# Altium footprint library SMD68_SPE_SIM900.PcbLib: 1 footprints
Each footprint in its own frame and in the unit in brackets; x right, y up, seen from the top. Pads: shape width x height; smd on the part's side, far side on the other; paste and mask are expansions set on the pad; w line width, h text height; cw(c..) or ccw(c..) is an arc to the next point about the centre after c.
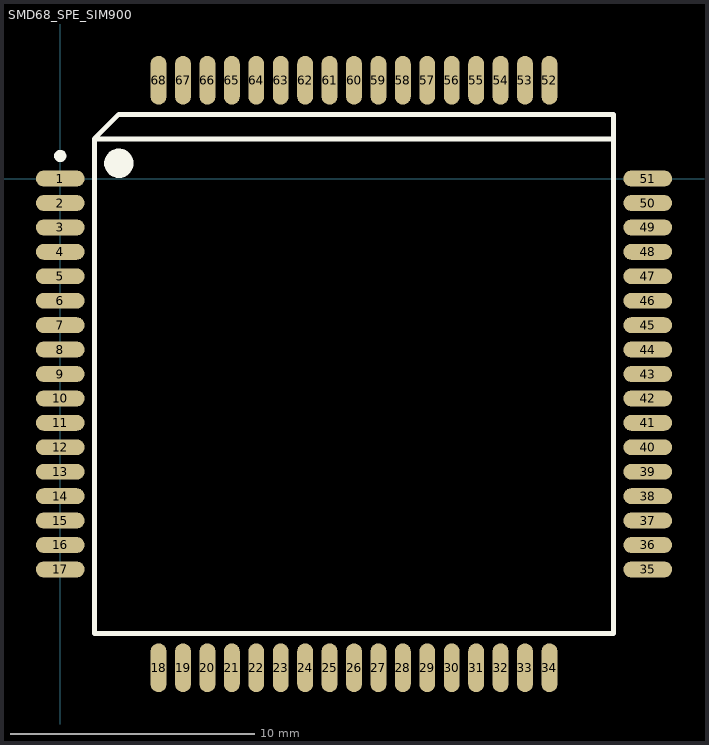
[diagram p0: the footprint, top view; thin cyan lines are the x and y axes]

## SMD68_SPE_SIM900 [mm]
height 3
pads (68):
  oval 2x0.65 smd: 1(0,0) 2(0,-1) 3(0,-2) 4(0,-3) 5(0,-4) 6(0,-5) 7(0,-6) 8(0,-7) 9(0,-8) 10(0,-9) 11(0,-10) 12(0,-11) 13(0,-12) 14(0,-13) 15(0,-14) 16(0,-15) 17(0,-16) 35(24.05,-16) 36(24.05,-15) 37(24.05,-14) 38(24.05,-13) 39(24.05,-12) 40(24.05,-11) 41(24.05,-10) 42(24.05,-9) 43(24.05,-8) 44(24.05,-7) 45(24.05,-6) 46(24.05,-5) 47(24.05,-4) 48(24.05,-3) 49(24.05,-2) 50(24.05,-1) 51(24.05,0)
  oval 0.65x2 smd: 18(4.025,-20.025) 19(5.025,-20.025) 20(6.025,-20.025) 21(7.025,-20.025) 22(8.025,-20.025) 23(9.025,-20.025) 24(10.025,-20.025) 25(11.025,-20.025) 26(12.025,-20.025) 27(13.025,-20.025) 28(14.025,-20.025) 29(15.025,-20.025) 30(16.025,-20.025) 31(17.025,-20.025) 32(18.025,-20.025) 33(19.025,-20.025) 34(20.025,-20.025) 52(20.025,4.025) 53(19.025,4.025) 54(18.025,4.025) 55(17.025,4.025) 56(16.025,4.025) 57(15.025,4.025) 58(14.025,4.025) 59(13.025,4.025) 60(12.025,4.025) 61(11.025,4.025) 62(10.025,4.025) 63(9.025,4.025) 64(8.025,4.025) 65(7.025,4.025) 66(6.025,4.025) 67(5.025,4.025) 68(4.025,4.025)
Top Overlay:
  circle w0.6: c2.4,0.625 r0.3
  circle w0.25: c0,0.925 r0.125
  lines w0.2: 22.65,1.625 1.4,1.625 ; 1.4,1.625 1.4,-18.625 22.65,-18.625 22.65,2.625 2.4,2.625 1.4,1.625
3D body: height 3.02, standoff 0, extent 0.051,-19.961 24.051,4.039